# Altium footprint library SM_D2PAK-7_N.PcbLib: 1 footprints
Each footprint in its own frame and in the unit in brackets; x right, y up, seen from the top. Pads: shape width x height; smd on the part's side, far side on the other; paste and mask are expansions set on the pad; w line width, h text height; cw(c..) or ccw(c..) is an arc to the next point about the centre after c.
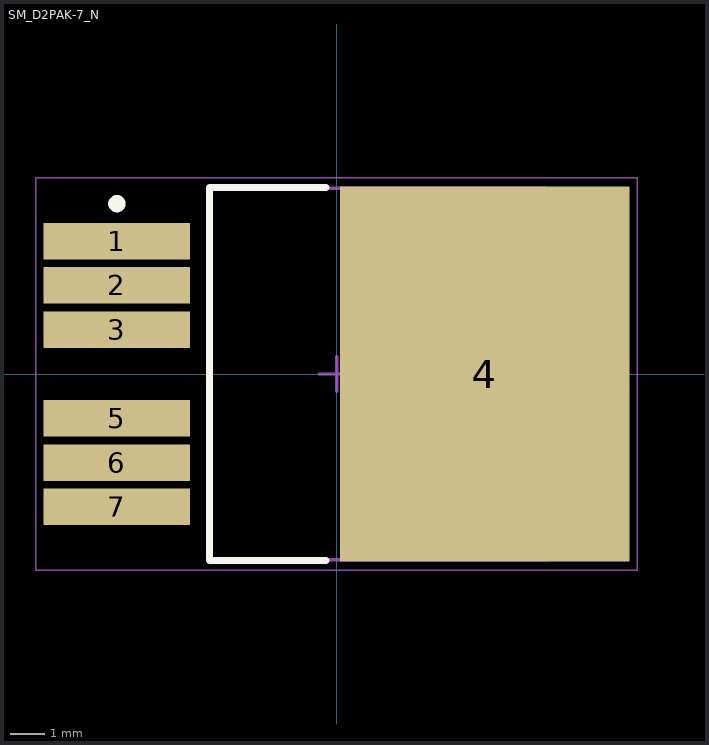
[diagram p0: the footprint, top view; thin cyan lines are the x and y axes]

## SM_D2PAK-7_N [mm] "DPAK, 7 Leads, Body 10.65x9.65mm, Pitch 1.27mm, IPC Medium Density"
height 4.83
pads (7):
  rect 4.2x1.05 smd: 1(-6.3,3.81) 2(-6.3,2.54) 3(-6.3,1.27) 5(-6.3,-1.27) 6(-6.3,-2.54) 7(-6.3,-3.81)
  rect 8.3x10.75 smd: 4(4.25,0)
Top Overlay:
  circle w0.25: c-6.3,4.885 r0.125
  lines w0.2: -0.3,-5.35 -3.65,-5.35 -3.65,5.35 -0.3,5.35
Mechanical 13:
  lines w0.1: -3.65,-5.325 -3.65,5.325 6,5.325 6,-5.325 -3.65,-5.325
Mechanical 15:
  lines w0.05: -8.625,-5.625 -8.625,5.625 8.625,5.625 8.625,-5.625 -8.625,-5.625
  lines w0.1: -0.5,0 0.5,0 ; 0,-0.5 0,0.5
3D body: height 4.83, standoff 0, extent -3.65,-5.325 6,5.325